# EAGLE library part UJ2-ADH-1-TH (library UJ2-ADH-1-TH)
USB Connectors USB 2.0 type A jack 8 pin Horizontal TH Source: Datasheet <http://www.cui.com/product/resource/uj2-adh-th.pdf>
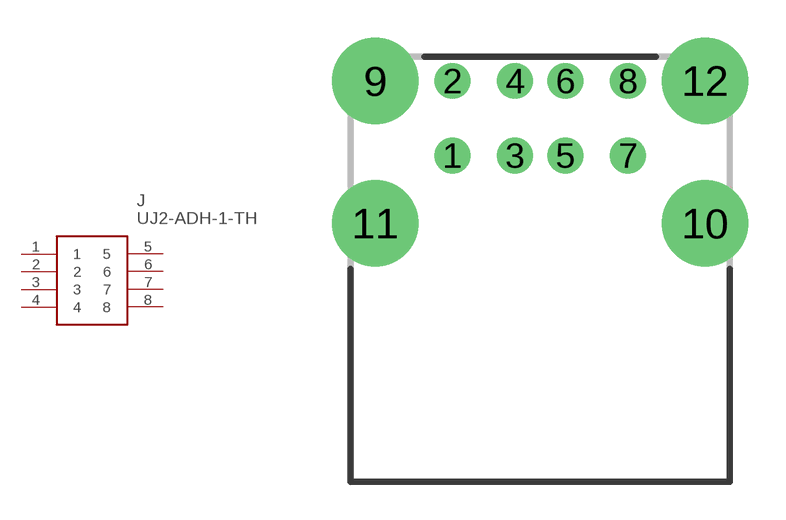
[diagram p0: symbol with the pads of UJ2-ADH-1-TH; footprint UJ2-ADH-1-TH]

Designator prefix J

## UJ2-ADH-1-TH (Arrow_Part_Number: UJ2-ADH-1-TH; Arrow_Price-Stock: https://www.arrow.com/en/products/uj2-adh-1-th/cui-devices; Description: USB Connectors USB 2.0 type A jack 8 pin Horizontal TH; Height: mm; Manufacturer_Name: CUI Inc.; Manufacturer_Part_Number: UJ2-ADH-1-TH; Mouser_Part_Number: 490-UJ2-ADH-1-TH; Mouser_Price-Stock: https://www.mouser.co.uk/ProductDetail/CUI-Devices/UJ2-ADH-1-TH/?qs=5mqXD9RfOg1bQeR60A16hA%3D%3D)  [UJ2-ADH-1-TH]
1  1
2  2
3  3
4  4
5  5
6  6
7  7
8  8

## Footprint UJ2-ADH-1-TH (pad centres in mm)
UJ2-ADH-1-TH
drill 0.92 pad 1.42: 1 -3.5,13.01; 2 -3.5,15.98; 3 -1,13.01; 4 -1,15.98; 5 1,13.01; 6 1,15.98; 7 3.5,13.01; 8 3.5,15.98
drill 2.3 pad 3.45: 9 -6.57,15.98; 10 6.57,10.3; 11 -6.57,10.3; 12 6.57,15.98